# Altium schematic symbol library PIC32MX795F512H-80I_PT.SchLib: 1 symbol
Pins are listed as number, name and electrical type; pins without a type are passive.

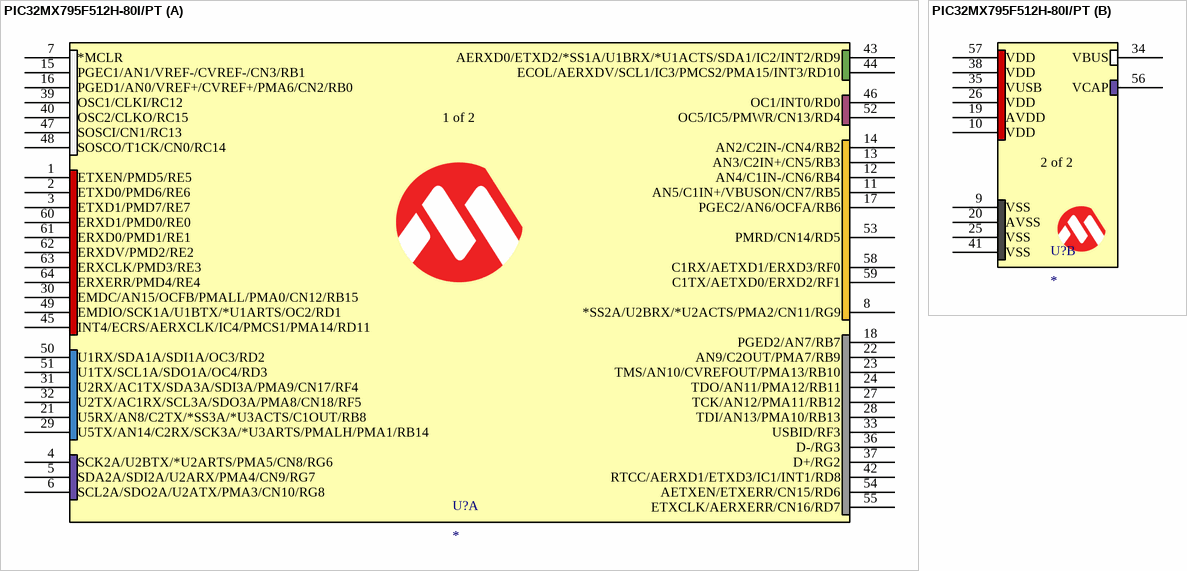
[diagram p0: symbol PIC32MX795F512H-80I/PT]

## PIC32MX795F512H-80I/PT
designator U?
No Description Available; Mfr_Name: Microchip; RefDes: RefDes; Type: Type
footprint TQFP64_10x10MC_MCH
part A pins: 1 ETXEN/PMD5/RE5, 2 ETXD0/PMD6/RE6, 3 ETXD1/PMD7/RE7, 4 SCK2A/U2BTX/*U2ARTS/PMA5/CN8/RG6, 5 SDA2A/SDI2A/U2ARX/PMA4/CN9/RG7, 6 SCL2A/SDO2A/U2ATX/PMA3/CN10/RG8, 7 *MCLR, 8 *SS2A/U2BRX/*U2ACTS/PMA2/CN11/RG9, 11 AN5/C1IN+/VBUSON/CN7/RB5, 12 AN4/C1IN-/CN6/RB4, 13 AN3/C2IN+/CN5/RB3, 14 AN2/C2IN-/CN4/RB2, 15 PGEC1/AN1/VREF-/CVREF-/CN3/RB1, 16 PGED1/AN0/VREF+/CVREF+/PMA6/CN2/RB0, 17 PGEC2/AN6/OCFA/RB6, 18 PGED2/AN7/RB7, 21 U5RX/AN8/C2TX/*SS3A/*U3ACTS/C1OUT/RB8, 22 AN9/C2OUT/PMA7/RB9, 23 TMS/AN10/CVREFOUT/PMA13/RB10, 24 TDO/AN11/PMA12/RB11, 27 TCK/AN12/PMA11/RB12, 28 TDI/AN13/PMA10/RB13, 29 U5TX/AN14/C2RX/SCK3A/*U3ARTS/PMALH/PMA1/RB14, 30 EMDC/AN15/OCFB/PMALL/PMA0/CN12/RB15, 31 U2RX/AC1TX/SDA3A/SDI3A/PMA9/CN17/RF4, 32 U2TX/AC1RX/SCL3A/SDO3A/PMA8/CN18/RF5, 33 USBID/RF3, 36 D-/RG3, 37 D+/RG2, 39 OSC1/CLKI/RC12, 40 OSC2/CLKO/RC15, 42 RTCC/AERXD1/ETXD3/IC1/INT1/RD8, 43 AERXD0/ETXD2/*SS1A/U1BRX/*U1ACTS/SDA1/IC2/INT2/RD9, 44 ECOL/AERXDV/SCL1/IC3/PMCS2/PMA15/INT3/RD10, 45 INT4/ECRS/AERXCLK/IC4/PMCS1/PMA14/RD11, 46 OC1/INT0/RD0, 47 SOSCI/CN1/RC13, 48 SOSCO/T1CK/CN0/RC14, 49 EMDIO/SCK1A/U1BTX/*U1ARTS/OC2/RD1, 50 U1RX/SDA1A/SDI1A/OC3/RD2, 51 U1TX/SCL1A/SDO1A/OC4/RD3, 52 OC5/IC5/PMWR/CN13/RD4, 53 PMRD/CN14/RD5, 54 AETXEN/ETXERR/CN15/RD6, 55 ETXCLK/AERXERR/CN16/RD7, 58 C1RX/AETXD1/ERXD3/RF0, 59 C1TX/AETXD0/ERXD2/RF1, 60 ERXD1/PMD0/RE0, 61 ERXD0/PMD1/RE1, 62 ERXDV/PMD2/RE2, 63 ERXCLK/PMD3/RE3, 64 ERXERR/PMD4/RE4
part B pins: 9 VSS, 10 VDD, 19 AVDD, 20 AVSS, 25 VSS, 26 VDD, 34 VBUS, 35 VUSB, 38 VDD, 41 VSS, 56 VCAP, 57 VDD
part A text: 1 of 2
part B text: 2 of 2